# Altium footprint library Footprint_Battery.PcbLib: 3 footprints
Each footprint in its own frame and in the unit in brackets; x right, y up, seen from the top. Pads: shape width x height; smd on the part's side, far side on the other; paste and mask are expansions set on the pad; w line width, h text height; cw(c..) or ccw(c..) is an arc to the next point about the centre after c.
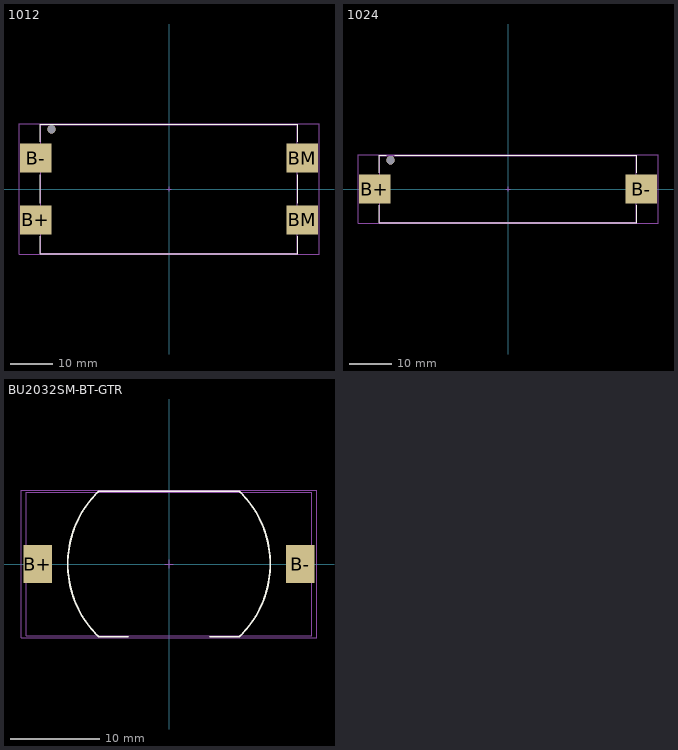
[diagram p0: the footprints below, top view; thin cyan lines are the x and y axes]

## 1012 [mm] "BATTERY HOLDER AA 2 CELL SMD TAB"
pads (5):
  rect 7.34x6.75 smd: B+(-31.105,-7.21) B-(-31.105,7.21) BM(31.105,-7.21) BM(31.105,7.21)
  round 1.98 hole 1.98: ""(-27.435,13.94)
Top Overlay:
  lines w0.2: -30.065,-11.085 -30.065,-15.085 30.065,-15.085 30.065,-11.085 ; -30.065,-3.335 -30.065,3.335 ; -30.065,11.085 -30.065,15.085 30.065,15.085 30.065,11.085 ; 30.065,-3.335 30.065,3.335
Top Assembly:
  lines w0.1: -29.965,-14.985 -29.965,14.985 29.965,14.985 29.965,-14.985 -29.965,-14.985
  text ".Designator" at -13.325,-2.15 h2.54
Top Courtyard:
  lines w0.05: -35.025,-15.235 -35.025,15.235 35.025,15.235 35.025,-15.235 -35.025,-15.235
  lines w0.1: -0.5,0 0.5,0 ; 0,-0.5 0,0.5
3D body "keystone-PN1012.STEP": height 14.86, standoff -1.57, extent -34.551,-14.98 34.563,14.992

## 1024 [mm] "BATTERY HOLDER AA 1 CELL SMD TAB"
pads (3):
  rect 7.34x6.75 smd: B+(-31.105,0) B-(31.105,0)
  round 1.98 hole 1.98: ""(-27.435,6.73)
Top Overlay:
  lines w0.2: -30.065,-3.85 -30.065,-7.85 30.065,-7.85 30.065,-3.85 ; -30.065,3.85 -30.065,7.85 -28.435,7.85 ; -26.435,7.85 30.065,7.85 30.065,3.85
Top Assembly:
  lines w0.1: -29.95,-7.75 -29.95,7.75 29.95,7.75 29.95,-7.75 -29.95,-7.75
  text ".Designator" at -13.325,-2.15 h2.54
Top Courtyard:
  lines w0.05: -35.025,-8 -35.025,8 35.025,8 35.025,-8 -35.025,-8
  lines w0.1: -0.5,0 0.5,0 ; 0,-0.5 0,0.5
3D body "keystone-PN1024.STEP": height 14.87, standoff -1.57, extent -34.423,-7.775 34.436,7.77

## BU2032SM-BT-GTR [mm] "BATTERY HOLDER COIN 20MM SMD"
pads (2):
  rect 3.2x4.2 smd: B+(-14.65,0) B-(14.65,0)
Top Overlay:
  lines w0.2: -4.55,-8.129 -7.85,-8.129 cw(c0,0) -7.85,8.129 7.85,8.129 cw(c0,0) 7.85,-8.129 4.55,-8.129
Top Assembly:
  lines w0.1: -15.925,-8 -15.925,8 15.925,8 15.925,-8 -15.925,-8
  text ".Designator" at -7.747,-1.27 h1.27
Top Courtyard:
  lines w0.05: -2.25,8.25 2.25,8.25 ; -16.5,-8.25 -16.5,8.25 16.5,8.25 16.5,-8.25 -16.5,-8.25
  lines w0.1: -0.5,0 0.5,0 ; 0,-0.5 0,0.5
3D body "BU2032SM-BT-GTR.STEP": height 5.2, standoff 0, extent -15.93,-8 15.93,8